# Altium schematic symbol library APTD2012LQBC_D.SchLib: 1 symbol
Pins are listed as number, name and electrical type; pins without a type are passive.

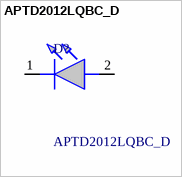
[diagram p0: symbol APTD2012LQBC_D]

## APTD2012LQBC_D
designator D?
Standard LEDs - SMD 0805 Dome Lens LED Blue- 465nm; Manufacturer_Name: Kingbright; Manufacturer_Part_Number: APTD2012LQBC/D; Geometry.Height: 1.2mm; Mouser Part Number: 604-APTD2012LQBCD; Mouser Price/Stock: https://www.mouser.co.uk/ProductDetail/Kingbright/APTD2012LQBC-D?qs=AQlKX63v8RvDGqprk6aUCg%3D%3D; Arrow Part Number: APTD2012LQBC/D; Arrow Price/Stock: https://www.arrow.com/en/products/aptd2012lqbcd/kingbright?region=nac; Datasheet Link: https://componentsearchengine.com/Datasheets/1/APTD2012LQBC_D.pdf
footprint LEDC2012X120N
pins: 1 K, 2 A